# Altium integrated library Zilog Peripheral Interface.IntLib: 24 symbols
Pins are listed as number, name and electrical type; pins without a type are passive.

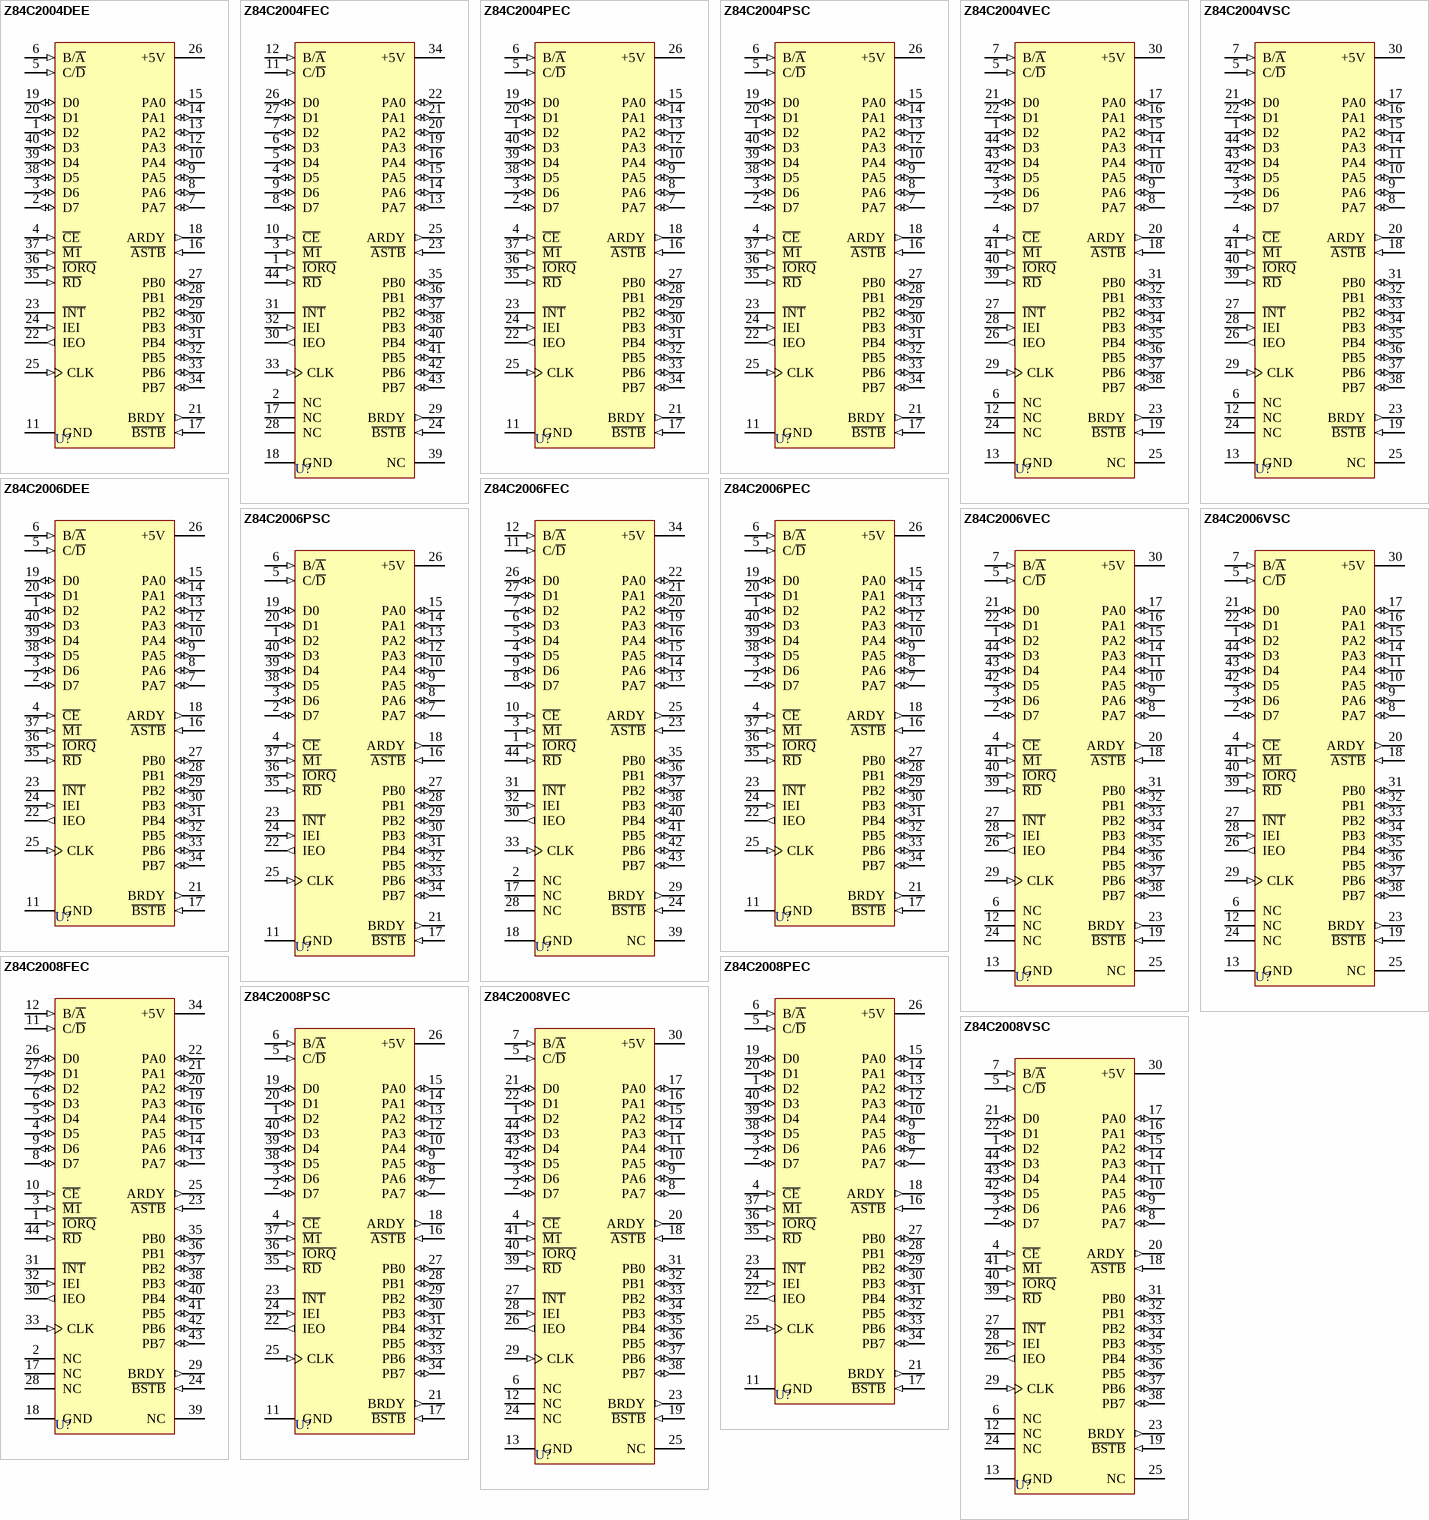
[diagram p0: symbols Z84C2004DEE to Z84C2008VSC]

## Z84C2004DEE
designator U?
CMOS Parallel I/O Controller; Published: 15-Apr-2002; LatestRevisionDate: 04-Mar-2005; LatestRevisionNote: Stylized 3D Model Added.; DatasheetVersion: 2001; PackageVersion: 1999; PackageReference: CerDIP40; Publisher: Altium Limited; PackageDescription: DIP; 40 Leads; Row Spacing 15.24 mm; Pitch 2.54 mm; ComponentLink1Description: Manufacturer Link; ComponentLink1URL: http://www.zilog.com/; ComponentLink2Description: Datasheet; ComponentLink2URL: http://www.zilog.com/docs/z80/um0081.pdf
footprint CerDIP40 (DIP; 40 Leads; Row Spacing 15.24 mm; Pitch 2.54 mm)
3D model PDIP40 (DIP; 40 Leads; Row Spacing 15.24 mm; Pitch 2.54 mm)
pins: 1 D2 (io), 2 D7 (io), 3 D6 (io), 4 ~{CE} (in), 5 C/~{D} (in), 6 B/~{A} (in), 7 PA7 (io), 8 PA6 (io), 9 PA5 (io), 10 PA4 (io), 11 GND (power), 12 PA3 (io), 13 PA2 (io), 14 PA1 (io), 15 PA0 (io), 16 ~{ASTB} (in), 17 ~{BSTB} (in), 18 ARDY (out), 19 D0 (io), 20 D1 (io), 21 BRDY (out), 22 IEO (out), 23 ~{INT} (oc), 24 IEI (in), 25 CLK (in), 26 +5V (power), 27 PB0 (io), 28 PB1 (io), 29 PB2 (io), 30 PB3 (io), 31 PB4 (io), 32 PB5 (io), 33 PB6 (io), 34 PB7 (io), 35 ~{RD} (in), 36 ~{IORQ} (in), 37 ~{M1} (in), 38 D5 (io), 39 D4 (io), 40 D3 (io)

## Z84C2004FEC
designator U?
CMOS Parallel I/O Controller; Published: 15-Apr-2002; LatestRevisionDate: 13-Apr-2006; LatestRevisionNote: IPC-7351 Footprint Added.; DatasheetVersion: Jan-1989; PackageReference: PQFP44; Publisher: Altium Limited; PackageDescription: 44-Pin Quad Flat Pack 0.8 mm Pitch; ComponentLink1Description: Manufacturer Link; ComponentLink1URL: http://www.zilog.com/
footprint PQFP44_N (QFP, 44-Leads, Body 10x10mm, Pitch 0.8mm, IPC Medium Density)
footprint PQFP44_L (QFP, 44-Leads, Body 10x10mm, Pitch 0.8mm, IPC High Density)
footprint PQFP44_M (QFP, 44-Leads, Body 10x10mm, Pitch 0.8mm, IPC Low Density)
3D model Z84C20-PQFP44 (44-Pin Quad Flat Pack 0.8 mm Pitch)
pins: 1 ~{IORQ} (in), 2 NC, 3 ~{M1} (in), 4 D5 (io), 5 D4 (io), 6 D3 (io), 7 D2 (io), 8 D7 (io), 9 D6 (io), 10 ~{CE} (in), 11 C/~{D} (in), 12 B/~{A} (in), 13 PA7 (io), 14 PA6 (io), 15 PA5 (io), 16 PA4 (io), 17 NC, 18 GND (power), 19 PA3 (io), 20 PA2 (io), 21 PA1 (io), 22 PA0 (io), 23 ~{ASTB} (in), 24 ~{BSTB} (in), 25 ARDY (out), 26 D0 (io), 27 D1 (io), 28 NC, 29 BRDY (out), 30 IEO (out), 31 ~{INT} (oc), 32 IEI (in), 33 CLK (in), 34 +5V (power), 35 PB0 (io), 36 PB1 (io), 37 PB2 (io), 38 PB3 (io), 39 NC, 40 PB4 (io), 41 PB5 (io), 42 PB6 (io), 43 PB7 (io), 44 ~{RD} (in)

## Z84C2004PEC
designator U?
CMOS Parallel I/O Controller; Published: 15-Apr-2002; LatestRevisionDate: 04-Mar-2005; LatestRevisionNote: Stylized 3D Model Added.; DatasheetVersion: 2001; PackageVersion: Jun-1999; PackageReference: PDIP40; Publisher: Altium Limited; PackageDescription: DIP; 40 Leads; Row Spacing 15.24 mm; Pitch 2.54 mm; ComponentLink1Description: Manufacturer Link; ComponentLink1URL: http://www.zilog.com/; ComponentLink2Description: Datasheet; ComponentLink2URL: http://www.zilog.com/docs/z80/um0081.pdf
footprint PDIP40 (DIP; 40 Leads; Row Spacing 15.24 mm; Pitch 2.54 mm)
3D model PDIP40 (DIP; 40 Leads; Row Spacing 15.24 mm; Pitch 2.54 mm)
pins: 1 D2 (io), 2 D7 (io), 3 D6 (io), 4 ~{CE} (in), 5 C/~{D} (in), 6 B/~{A} (in), 7 PA7 (io), 8 PA6 (io), 9 PA5 (io), 10 PA4 (io), 11 GND (power), 12 PA3 (io), 13 PA2 (io), 14 PA1 (io), 15 PA0 (io), 16 ~{ASTB} (in), 17 ~{BSTB} (in), 18 ARDY (out), 19 D0 (io), 20 D1 (io), 21 BRDY (out), 22 IEO (out), 23 ~{INT} (oc), 24 IEI (in), 25 CLK (in), 26 +5V (power), 27 PB0 (io), 28 PB1 (io), 29 PB2 (io), 30 PB3 (io), 31 PB4 (io), 32 PB5 (io), 33 PB6 (io), 34 PB7 (io), 35 ~{RD} (in), 36 ~{IORQ} (in), 37 ~{M1} (in), 38 D5 (io), 39 D4 (io), 40 D3 (io)

## Z84C2004PSC
designator U?
CMOS Parallel I/O Controller; Published: 15-Apr-2002; LatestRevisionDate: 04-Mar-2005; LatestRevisionNote: Stylized 3D Model Added.; DatasheetVersion: 2001; PackageVersion: Jun-1999; PackageReference: PDIP40; Publisher: Altium Limited; PackageDescription: DIP; 40 Leads; Row Spacing 15.24 mm; Pitch 2.54 mm; ComponentLink1Description: Manufacturer Link; ComponentLink1URL: http://www.zilog.com/; ComponentLink2Description: Datasheet; ComponentLink2URL: http://www.zilog.com/docs/z80/um0081.pdf
footprint PDIP40 (DIP; 40 Leads; Row Spacing 15.24 mm; Pitch 2.54 mm)
3D model PDIP40 (DIP; 40 Leads; Row Spacing 15.24 mm; Pitch 2.54 mm)
pins: 1 D2 (io), 2 D7 (io), 3 D6 (io), 4 ~{CE} (in), 5 C/~{D} (in), 6 B/~{A} (in), 7 PA7 (io), 8 PA6 (io), 9 PA5 (io), 10 PA4 (io), 11 GND (power), 12 PA3 (io), 13 PA2 (io), 14 PA1 (io), 15 PA0 (io), 16 ~{ASTB} (in), 17 ~{BSTB} (in), 18 ARDY (out), 19 D0 (io), 20 D1 (io), 21 BRDY (out), 22 IEO (out), 23 ~{INT} (oc), 24 IEI (in), 25 CLK (in), 26 +5V (power), 27 PB0 (io), 28 PB1 (io), 29 PB2 (io), 30 PB3 (io), 31 PB4 (io), 32 PB5 (io), 33 PB6 (io), 34 PB7 (io), 35 ~{RD} (in), 36 ~{IORQ} (in), 37 ~{M1} (in), 38 D5 (io), 39 D4 (io), 40 D3 (io)

## Z84C2004VEC
designator U?
CMOS Parallel I/O Controller; Published: 15-Apr-2002; LatestRevisionDate: 13-Apr-2006; LatestRevisionNote: IPC-7351 Footprint Added.; DatasheetVersion: 2001; PackageReference: PCC44; Publisher: Altium Limited; PackageDescription: 44-Pin Leaded Chip Carrier 1.27 mm Pitch; Code_IPC: PLCC-44; ComponentLink1Description: Manufacturer Link; ComponentLink1URL: http://www.zilog.com/; ComponentLink2Description: Datasheet; ComponentLink2URL: http://www.zilog.com/docs/z80/um0081.pdf
footprint PCC44_N (Leaded Chip Carrier, 44-Leads, Body 16.6x16.6mm, Pitch 1.27mm, IPC Medium Density)
footprint PCC44_L (Leaded Chip Carrier, 44-Leads, Body 16.6x16.6mm, Pitch 1.27mm, IPC High Density)
footprint PCC44_M (Leaded Chip Carrier, 44-Leads, Body 16.6x16.6mm, Pitch 1.27mm, IPC Low Density)
3D model Z84C20-PCC44 (44-Pin Leaded Chip Carrier 1.27 mm Pitch)
pins: 1 D2 (io), 2 D7 (io), 3 D6 (io), 4 ~{CE} (in), 5 C/~{D} (in), 6 NC, 7 B/~{A} (in), 8 PA7 (io), 9 PA6 (io), 10 PA5 (io), 11 PA4 (io), 12 NC, 13 GND (power), 14 PA3 (io), 15 PA2 (io), 16 PA1 (io), 17 PA0 (io), 18 ~{ASTB} (in), 19 ~{BSTB} (in), 20 ARDY (out), 21 D0 (io), 22 D1 (io), 23 BRDY (out), 24 NC, 25 NC, 26 IEO (out), 27 ~{INT} (oc), 28 IEI (in), 29 CLK (in), 30 +5V (power), 31 PB0 (io), 32 PB1 (io), 33 PB2 (io), 34 PB3 (io), 35 PB4 (io), 36 PB5 (io), 37 PB6 (io), 38 PB7 (io), 39 ~{RD} (in), 40 ~{IORQ} (in), 41 ~{M1} (in), 42 D5 (io), 43 D4 (io), 44 D3 (io)

## Z84C2004VSC
designator U?
CMOS Parallel I/O Controller; Published: 15-Apr-2002; LatestRevisionDate: 13-Apr-2006; LatestRevisionNote: IPC-7351 Footprint Added.; DatasheetVersion: 2001; PackageReference: PCC44; Publisher: Altium Limited; PackageDescription: 44-Pin Leaded Chip Carrier 1.27 mm Pitch; Code_IPC: PLCC-44; ComponentLink1Description: Manufacturer Link; ComponentLink1URL: http://www.zilog.com/; ComponentLink2Description: Datasheet; ComponentLink2URL: http://www.zilog.com/docs/z80/um0081.pdf
footprint PCC44_N (Leaded Chip Carrier, 44-Leads, Body 16.6x16.6mm, Pitch 1.27mm, IPC Medium Density)
footprint PCC44_L (Leaded Chip Carrier, 44-Leads, Body 16.6x16.6mm, Pitch 1.27mm, IPC High Density)
footprint PCC44_M (Leaded Chip Carrier, 44-Leads, Body 16.6x16.6mm, Pitch 1.27mm, IPC Low Density)
3D model Z84C20-PCC44 (44-Pin Leaded Chip Carrier 1.27 mm Pitch)
pins: 1 D2 (io), 2 D7 (io), 3 D6 (io), 4 ~{CE} (in), 5 C/~{D} (in), 6 NC, 7 B/~{A} (in), 8 PA7 (io), 9 PA6 (io), 10 PA5 (io), 11 PA4 (io), 12 NC, 13 GND (power), 14 PA3 (io), 15 PA2 (io), 16 PA1 (io), 17 PA0 (io), 18 ~{ASTB} (in), 19 ~{BSTB} (in), 20 ARDY (out), 21 D0 (io), 22 D1 (io), 23 BRDY (out), 24 NC, 25 NC, 26 IEO (out), 27 ~{INT} (oc), 28 IEI (in), 29 CLK (in), 30 +5V (power), 31 PB0 (io), 32 PB1 (io), 33 PB2 (io), 34 PB3 (io), 35 PB4 (io), 36 PB5 (io), 37 PB6 (io), 38 PB7 (io), 39 ~{RD} (in), 40 ~{IORQ} (in), 41 ~{M1} (in), 42 D5 (io), 43 D4 (io), 44 D3 (io)

## Z84C2006DEE
designator U?
CMOS Parallel I/O Controller; Published: 15-Apr-2002; LatestRevisionDate: 04-Mar-2005; LatestRevisionNote: Stylized 3D Model Added.; DatasheetVersion: 2001; PackageVersion: 1999; PackageReference: CerDIP40; Publisher: Altium Limited; PackageDescription: DIP; 40 Leads; Row Spacing 15.24 mm; Pitch 2.54 mm; ComponentLink1Description: Manufacturer Link; ComponentLink1URL: http://www.zilog.com/; ComponentLink2Description: Datasheet; ComponentLink2URL: http://www.zilog.com/docs/z80/um0081.pdf
footprint CerDIP40 (DIP; 40 Leads; Row Spacing 15.24 mm; Pitch 2.54 mm)
3D model PDIP40 (DIP; 40 Leads; Row Spacing 15.24 mm; Pitch 2.54 mm)
pins: 1 D2 (io), 2 D7 (io), 3 D6 (io), 4 ~{CE} (in), 5 C/~{D} (in), 6 B/~{A} (in), 7 PA7 (io), 8 PA6 (io), 9 PA5 (io), 10 PA4 (io), 11 GND (power), 12 PA3 (io), 13 PA2 (io), 14 PA1 (io), 15 PA0 (io), 16 ~{ASTB} (in), 17 ~{BSTB} (in), 18 ARDY (out), 19 D0 (io), 20 D1 (io), 21 BRDY (out), 22 IEO (out), 23 ~{INT} (oc), 24 IEI (in), 25 CLK (in), 26 +5V (power), 27 PB0 (io), 28 PB1 (io), 29 PB2 (io), 30 PB3 (io), 31 PB4 (io), 32 PB5 (io), 33 PB6 (io), 34 PB7 (io), 35 ~{RD} (in), 36 ~{IORQ} (in), 37 ~{M1} (in), 38 D5 (io), 39 D4 (io), 40 D3 (io)

## Z84C2006FEC
designator U?
CMOS Parallel I/O Controller; Published: 15-Apr-2002; LatestRevisionDate: 13-Apr-2006; LatestRevisionNote: IPC-7351 Footprint Added.; DatasheetVersion: Jan-1989; PackageReference: PQFP44; Publisher: Altium Limited; PackageDescription: 44-Pin Quad Flat Pack 0.8 mm Pitch; ComponentLink1Description: Manufacturer Link; ComponentLink1URL: http://www.zilog.com/; ComponentLink2Description: Datasheet; ComponentLink2URL: http://www.zilog.com/docs/z80/um0081.pdf
footprint PQFP44_N (QFP, 44-Leads, Body 10x10mm, Pitch 0.8mm, IPC Medium Density)
footprint PQFP44_L (QFP, 44-Leads, Body 10x10mm, Pitch 0.8mm, IPC High Density)
footprint PQFP44_M (QFP, 44-Leads, Body 10x10mm, Pitch 0.8mm, IPC Low Density)
3D model Z84C20-PQFP44 (44-Pin Quad Flat Pack 0.8 mm Pitch)
pins: 1 ~{IORQ} (in), 2 NC, 3 ~{M1} (in), 4 D5 (io), 5 D4 (io), 6 D3 (io), 7 D2 (io), 8 D7 (io), 9 D6 (io), 10 ~{CE} (in), 11 C/~{D} (in), 12 B/~{A} (in), 13 PA7 (io), 14 PA6 (io), 15 PA5 (io), 16 PA4 (io), 17 NC, 18 GND (power), 19 PA3 (io), 20 PA2 (io), 21 PA1 (io), 22 PA0 (io), 23 ~{ASTB} (in), 24 ~{BSTB} (in), 25 ARDY (out), 26 D0 (io), 27 D1 (io), 28 NC, 29 BRDY (out), 30 IEO (out), 31 ~{INT} (oc), 32 IEI (in), 33 CLK (in), 34 +5V (power), 35 PB0 (io), 36 PB1 (io), 37 PB2 (io), 38 PB3 (io), 39 NC, 40 PB4 (io), 41 PB5 (io), 42 PB6 (io), 43 PB7 (io), 44 ~{RD} (in)

## Z84C2006PEC
designator U?
CMOS Parallel I/O Controller; Published: 15-Apr-2002; LatestRevisionDate: 04-Mar-2005; LatestRevisionNote: Stylized 3D Model Added.; DatasheetVersion: 2001; PackageVersion: Jun-1999; PackageReference: PDIP40; Publisher: Altium Limited; PackageDescription: DIP; 40 Leads; Row Spacing 15.24 mm; Pitch 2.54 mm; ComponentLink1Description: Manufacturer Link; ComponentLink1URL: http://www.zilog.com/; ComponentLink2Description: Datasheet; ComponentLink2URL: http://www.zilog.com/docs/z80/um0081.pdf
footprint PDIP40 (DIP; 40 Leads; Row Spacing 15.24 mm; Pitch 2.54 mm)
3D model PDIP40 (DIP; 40 Leads; Row Spacing 15.24 mm; Pitch 2.54 mm)
pins: 1 D2 (io), 2 D7 (io), 3 D6 (io), 4 ~{CE} (in), 5 C/~{D} (in), 6 B/~{A} (in), 7 PA7 (io), 8 PA6 (io), 9 PA5 (io), 10 PA4 (io), 11 GND (power), 12 PA3 (io), 13 PA2 (io), 14 PA1 (io), 15 PA0 (io), 16 ~{ASTB} (in), 17 ~{BSTB} (in), 18 ARDY (out), 19 D0 (io), 20 D1 (io), 21 BRDY (out), 22 IEO (out), 23 ~{INT} (oc), 24 IEI (in), 25 CLK (in), 26 +5V (power), 27 PB0 (io), 28 PB1 (io), 29 PB2 (io), 30 PB3 (io), 31 PB4 (io), 32 PB5 (io), 33 PB6 (io), 34 PB7 (io), 35 ~{RD} (in), 36 ~{IORQ} (in), 37 ~{M1} (in), 38 D5 (io), 39 D4 (io), 40 D3 (io)

## Z84C2006PSC
designator U?
CMOS Parallel I/O Controller; Published: 15-Apr-2002; LatestRevisionDate: 04-Mar-2005; LatestRevisionNote: Stylized 3D Model Added.; DatasheetVersion: 2001; PackageVersion: Jun-1999; PackageReference: PDIP40; Publisher: Altium Limited; PackageDescription: DIP; 40 Leads; Row Spacing 15.24 mm; Pitch 2.54 mm; ComponentLink1Description: Manufacturer Link; ComponentLink1URL: http://www.zilog.com/; ComponentLink2Description: Datasheet; ComponentLink2URL: http://www.zilog.com/docs/z80/um0081.pdf
footprint PDIP40 (DIP; 40 Leads; Row Spacing 15.24 mm; Pitch 2.54 mm)
3D model PDIP40 (DIP; 40 Leads; Row Spacing 15.24 mm; Pitch 2.54 mm)
pins: 1 D2 (io), 2 D7 (io), 3 D6 (io), 4 ~{CE} (in), 5 C/~{D} (in), 6 B/~{A} (in), 7 PA7 (io), 8 PA6 (io), 9 PA5 (io), 10 PA4 (io), 11 GND (power), 12 PA3 (io), 13 PA2 (io), 14 PA1 (io), 15 PA0 (io), 16 ~{ASTB} (in), 17 ~{BSTB} (in), 18 ARDY (out), 19 D0 (io), 20 D1 (io), 21 BRDY (out), 22 IEO (out), 23 ~{INT} (oc), 24 IEI (in), 25 CLK (in), 26 +5V (power), 27 PB0 (io), 28 PB1 (io), 29 PB2 (io), 30 PB3 (io), 31 PB4 (io), 32 PB5 (io), 33 PB6 (io), 34 PB7 (io), 35 ~{RD} (in), 36 ~{IORQ} (in), 37 ~{M1} (in), 38 D5 (io), 39 D4 (io), 40 D3 (io)

## Z84C2006VEC
designator U?
CMOS Parallel I/O Controller; Published: 15-Apr-2002; LatestRevisionDate: 13-Apr-2006; LatestRevisionNote: IPC-7351 Footprint Added.; DatasheetVersion: 2001; PackageReference: PCC44; Publisher: Altium Limited; PackageDescription: 44-Pin Leaded Chip Carrier 1.27 mm Pitch; Code_IPC: PLCC-44; ComponentLink1Description: Manufacturer Link; ComponentLink1URL: http://www.zilog.com/; ComponentLink2Description: Datasheet; ComponentLink2URL: http://www.zilog.com/docs/z80/um0081.pdf
footprint PCC44_N (Leaded Chip Carrier, 44-Leads, Body 16.6x16.6mm, Pitch 1.27mm, IPC Medium Density)
footprint PCC44_L (Leaded Chip Carrier, 44-Leads, Body 16.6x16.6mm, Pitch 1.27mm, IPC High Density)
footprint PCC44_M (Leaded Chip Carrier, 44-Leads, Body 16.6x16.6mm, Pitch 1.27mm, IPC Low Density)
3D model Z84C20-PCC44 (44-Pin Leaded Chip Carrier 1.27 mm Pitch)
pins: 1 D2 (io), 2 D7 (io), 3 D6 (io), 4 ~{CE} (in), 5 C/~{D} (in), 6 NC, 7 B/~{A} (in), 8 PA7 (io), 9 PA6 (io), 10 PA5 (io), 11 PA4 (io), 12 NC, 13 GND (power), 14 PA3 (io), 15 PA2 (io), 16 PA1 (io), 17 PA0 (io), 18 ~{ASTB} (in), 19 ~{BSTB} (in), 20 ARDY (out), 21 D0 (io), 22 D1 (io), 23 BRDY (out), 24 NC, 25 NC, 26 IEO (out), 27 ~{INT} (oc), 28 IEI (in), 29 CLK (in), 30 +5V (power), 31 PB0 (io), 32 PB1 (io), 33 PB2 (io), 34 PB3 (io), 35 PB4 (io), 36 PB5 (io), 37 PB6 (io), 38 PB7 (io), 39 ~{RD} (in), 40 ~{IORQ} (in), 41 ~{M1} (in), 42 D5 (io), 43 D4 (io), 44 D3 (io)

## Z84C2006VSC
designator U?
CMOS Parallel I/O Controller; Published: 15-Apr-2002; LatestRevisionDate: 13-Apr-2006; LatestRevisionNote: IPC-7351 Footprint Added.; DatasheetVersion: 2001; PackageReference: PCC44; Publisher: Altium Limited; PackageDescription: 44-Pin Leaded Chip Carrier 1.27 mm Pitch; Code_IPC: PLCC-44; ComponentLink1Description: Manufacturer Link; ComponentLink1URL: http://www.zilog.com/; ComponentLink2Description: Datasheet; ComponentLink2URL: http://www.zilog.com/docs/z80/um0081.pdf
footprint PCC44_N (Leaded Chip Carrier, 44-Leads, Body 16.6x16.6mm, Pitch 1.27mm, IPC Medium Density)
footprint PCC44_L (Leaded Chip Carrier, 44-Leads, Body 16.6x16.6mm, Pitch 1.27mm, IPC High Density)
footprint PCC44_M (Leaded Chip Carrier, 44-Leads, Body 16.6x16.6mm, Pitch 1.27mm, IPC Low Density)
3D model Z84C20-PCC44 (44-Pin Leaded Chip Carrier 1.27 mm Pitch)
pins: 1 D2 (io), 2 D7 (io), 3 D6 (io), 4 ~{CE} (in), 5 C/~{D} (in), 6 NC, 7 B/~{A} (in), 8 PA7 (io), 9 PA6 (io), 10 PA5 (io), 11 PA4 (io), 12 NC, 13 GND (power), 14 PA3 (io), 15 PA2 (io), 16 PA1 (io), 17 PA0 (io), 18 ~{ASTB} (in), 19 ~{BSTB} (in), 20 ARDY (out), 21 D0 (io), 22 D1 (io), 23 BRDY (out), 24 NC, 25 NC, 26 IEO (out), 27 ~{INT} (oc), 28 IEI (in), 29 CLK (in), 30 +5V (power), 31 PB0 (io), 32 PB1 (io), 33 PB2 (io), 34 PB3 (io), 35 PB4 (io), 36 PB5 (io), 37 PB6 (io), 38 PB7 (io), 39 ~{RD} (in), 40 ~{IORQ} (in), 41 ~{M1} (in), 42 D5 (io), 43 D4 (io), 44 D3 (io)

## Z84C2008FEC
designator U?
CMOS Parallel I/O Controller; Published: 15-Apr-2002; LatestRevisionDate: 13-Apr-2006; LatestRevisionNote: IPC-7351 Footprint Added.; DatasheetVersion: Jan-1989; PackageReference: PQFP44; Publisher: Altium Limited; PackageDescription: 44-Pin Quad Flat Pack 0.8 mm Pitch; ComponentLink1Description: Manufacturer Link; ComponentLink1URL: http://www.zilog.com/
footprint PQFP44_N (QFP, 44-Leads, Body 10x10mm, Pitch 0.8mm, IPC Medium Density)
footprint PQFP44_L (QFP, 44-Leads, Body 10x10mm, Pitch 0.8mm, IPC High Density)
footprint PQFP44_M (QFP, 44-Leads, Body 10x10mm, Pitch 0.8mm, IPC Low Density)
3D model Z84C20-PQFP44 (44-Pin Quad Flat Pack 0.8 mm Pitch)
pins: 1 ~{IORQ} (in), 2 NC, 3 ~{M1} (in), 4 D5 (io), 5 D4 (io), 6 D3 (io), 7 D2 (io), 8 D7 (io), 9 D6 (io), 10 ~{CE} (in), 11 C/~{D} (in), 12 B/~{A} (in), 13 PA7 (io), 14 PA6 (io), 15 PA5 (io), 16 PA4 (io), 17 NC, 18 GND (power), 19 PA3 (io), 20 PA2 (io), 21 PA1 (io), 22 PA0 (io), 23 ~{ASTB} (in), 24 ~{BSTB} (in), 25 ARDY (out), 26 D0 (io), 27 D1 (io), 28 NC, 29 BRDY (out), 30 IEO (out), 31 ~{INT} (oc), 32 IEI (in), 33 CLK (in), 34 +5V (power), 35 PB0 (io), 36 PB1 (io), 37 PB2 (io), 38 PB3 (io), 39 NC, 40 PB4 (io), 41 PB5 (io), 42 PB6 (io), 43 PB7 (io), 44 ~{RD} (in)

## Z84C2008PEC
designator U?
CMOS Parallel I/O Controller; Published: 15-Apr-2002; LatestRevisionDate: 04-Mar-2005; LatestRevisionNote: Stylized 3D Model Added.; DatasheetVersion: 2001; PackageVersion: Jun-1999; PackageReference: PDIP40; Publisher: Altium Limited; PackageDescription: DIP; 40 Leads; Row Spacing 15.24 mm; Pitch 2.54 mm; ComponentLink1Description: Manufacturer Link; ComponentLink1URL: http://www.zilog.com/; ComponentLink2Description: Datasheet; ComponentLink2URL: http://www.zilog.com/docs/z80/um0081.pdf
footprint PDIP40 (DIP; 40 Leads; Row Spacing 15.24 mm; Pitch 2.54 mm)
3D model PDIP40 (DIP; 40 Leads; Row Spacing 15.24 mm; Pitch 2.54 mm)
pins: 1 D2 (io), 2 D7 (io), 3 D6 (io), 4 ~{CE} (in), 5 C/~{D} (in), 6 B/~{A} (in), 7 PA7 (io), 8 PA6 (io), 9 PA5 (io), 10 PA4 (io), 11 GND (power), 12 PA3 (io), 13 PA2 (io), 14 PA1 (io), 15 PA0 (io), 16 ~{ASTB} (in), 17 ~{BSTB} (in), 18 ARDY (out), 19 D0 (io), 20 D1 (io), 21 BRDY (out), 22 IEO (out), 23 ~{INT} (oc), 24 IEI (in), 25 CLK (in), 26 +5V (power), 27 PB0 (io), 28 PB1 (io), 29 PB2 (io), 30 PB3 (io), 31 PB4 (io), 32 PB5 (io), 33 PB6 (io), 34 PB7 (io), 35 ~{RD} (in), 36 ~{IORQ} (in), 37 ~{M1} (in), 38 D5 (io), 39 D4 (io), 40 D3 (io)

## Z84C2008PSC
designator U?
CMOS Parallel I/O Controller; Published: 15-Apr-2002; LatestRevisionDate: 04-Mar-2005; LatestRevisionNote: Stylized 3D Model Added.; DatasheetVersion: 2001; PackageVersion: Jun-1999; PackageReference: PDIP40; Publisher: Altium Limited; PackageDescription: DIP; 40 Leads; Row Spacing 15.24 mm; Pitch 2.54 mm; ComponentLink1Description: Manufacturer Link; ComponentLink1URL: http://www.zilog.com/; ComponentLink2Description: Datasheet; ComponentLink2URL: http://www.zilog.com/docs/z80/um0081.pdf
footprint PDIP40 (DIP; 40 Leads; Row Spacing 15.24 mm; Pitch 2.54 mm)
3D model PDIP40 (DIP; 40 Leads; Row Spacing 15.24 mm; Pitch 2.54 mm)
pins: 1 D2 (io), 2 D7 (io), 3 D6 (io), 4 ~{CE} (in), 5 C/~{D} (in), 6 B/~{A} (in), 7 PA7 (io), 8 PA6 (io), 9 PA5 (io), 10 PA4 (io), 11 GND (power), 12 PA3 (io), 13 PA2 (io), 14 PA1 (io), 15 PA0 (io), 16 ~{ASTB} (in), 17 ~{BSTB} (in), 18 ARDY (out), 19 D0 (io), 20 D1 (io), 21 BRDY (out), 22 IEO (out), 23 ~{INT} (oc), 24 IEI (in), 25 CLK (in), 26 +5V (power), 27 PB0 (io), 28 PB1 (io), 29 PB2 (io), 30 PB3 (io), 31 PB4 (io), 32 PB5 (io), 33 PB6 (io), 34 PB7 (io), 35 ~{RD} (in), 36 ~{IORQ} (in), 37 ~{M1} (in), 38 D5 (io), 39 D4 (io), 40 D3 (io)

## Z84C2008VEC
designator U?
CMOS Parallel I/O Controller; Published: 15-Apr-2002; LatestRevisionDate: 13-Apr-2006; LatestRevisionNote: IPC-7351 Footprint Added.; DatasheetVersion: 2001; PackageReference: PCC44; Publisher: Altium Limited; PackageDescription: 44-Pin Leaded Chip Carrier 1.27 mm Pitch; Code_IPC: PLCC-44; ComponentLink1Description: Manufacturer Link; ComponentLink1URL: http://www.zilog.com/; ComponentLink2Description: Datasheet; ComponentLink2URL: http://www.zilog.com/docs/z80/um0081.pdf
footprint PCC44_N (Leaded Chip Carrier, 44-Leads, Body 16.6x16.6mm, Pitch 1.27mm, IPC Medium Density)
footprint PCC44_L (Leaded Chip Carrier, 44-Leads, Body 16.6x16.6mm, Pitch 1.27mm, IPC High Density)
footprint PCC44_M (Leaded Chip Carrier, 44-Leads, Body 16.6x16.6mm, Pitch 1.27mm, IPC Low Density)
3D model Z84C20-PCC44 (44-Pin Leaded Chip Carrier 1.27 mm Pitch)
pins: 1 D2 (io), 2 D7 (io), 3 D6 (io), 4 ~{CE} (in), 5 C/~{D} (in), 6 NC, 7 B/~{A} (in), 8 PA7 (io), 9 PA6 (io), 10 PA5 (io), 11 PA4 (io), 12 NC, 13 GND (power), 14 PA3 (io), 15 PA2 (io), 16 PA1 (io), 17 PA0 (io), 18 ~{ASTB} (in), 19 ~{BSTB} (in), 20 ARDY (out), 21 D0 (io), 22 D1 (io), 23 BRDY (out), 24 NC, 25 NC, 26 IEO (out), 27 ~{INT} (oc), 28 IEI (in), 29 CLK (in), 30 +5V (power), 31 PB0 (io), 32 PB1 (io), 33 PB2 (io), 34 PB3 (io), 35 PB4 (io), 36 PB5 (io), 37 PB6 (io), 38 PB7 (io), 39 ~{RD} (in), 40 ~{IORQ} (in), 41 ~{M1} (in), 42 D5 (io), 43 D4 (io), 44 D3 (io)

## Z84C2008VSC
designator U?
CMOS Parallel I/O Controller; Published: 15-Apr-2002; LatestRevisionDate: 13-Apr-2006; LatestRevisionNote: IPC-7351 Footprint Added.; DatasheetVersion: 2001; PackageReference: PCC44; Publisher: Altium Limited; PackageDescription: 44-Pin Leaded Chip Carrier 1.27 mm Pitch; Code_IPC: PLCC-44; ComponentLink1Description: Manufacturer Link; ComponentLink1URL: http://www.zilog.com/; ComponentLink2Description: Datasheet; ComponentLink2URL: http://www.zilog.com/docs/z80/um0081.pdf
footprint PCC44_N (Leaded Chip Carrier, 44-Leads, Body 16.6x16.6mm, Pitch 1.27mm, IPC Medium Density)
footprint PCC44_L (Leaded Chip Carrier, 44-Leads, Body 16.6x16.6mm, Pitch 1.27mm, IPC High Density)
footprint PCC44_M (Leaded Chip Carrier, 44-Leads, Body 16.6x16.6mm, Pitch 1.27mm, IPC Low Density)
3D model Z84C20-PCC44 (44-Pin Leaded Chip Carrier 1.27 mm Pitch)
pins: 1 D2 (io), 2 D7 (io), 3 D6 (io), 4 ~{CE} (in), 5 C/~{D} (in), 6 NC, 7 B/~{A} (in), 8 PA7 (io), 9 PA6 (io), 10 PA5 (io), 11 PA4 (io), 12 NC, 13 GND (power), 14 PA3 (io), 15 PA2 (io), 16 PA1 (io), 17 PA0 (io), 18 ~{ASTB} (in), 19 ~{BSTB} (in), 20 ARDY (out), 21 D0 (io), 22 D1 (io), 23 BRDY (out), 24 NC, 25 NC, 26 IEO (out), 27 ~{INT} (oc), 28 IEI (in), 29 CLK (in), 30 +5V (power), 31 PB0 (io), 32 PB1 (io), 33 PB2 (io), 34 PB3 (io), 35 PB4 (io), 36 PB5 (io), 37 PB6 (io), 38 PB7 (io), 39 ~{RD} (in), 40 ~{IORQ} (in), 41 ~{M1} (in), 42 D5 (io), 43 D4 (io), 44 D3 (io)

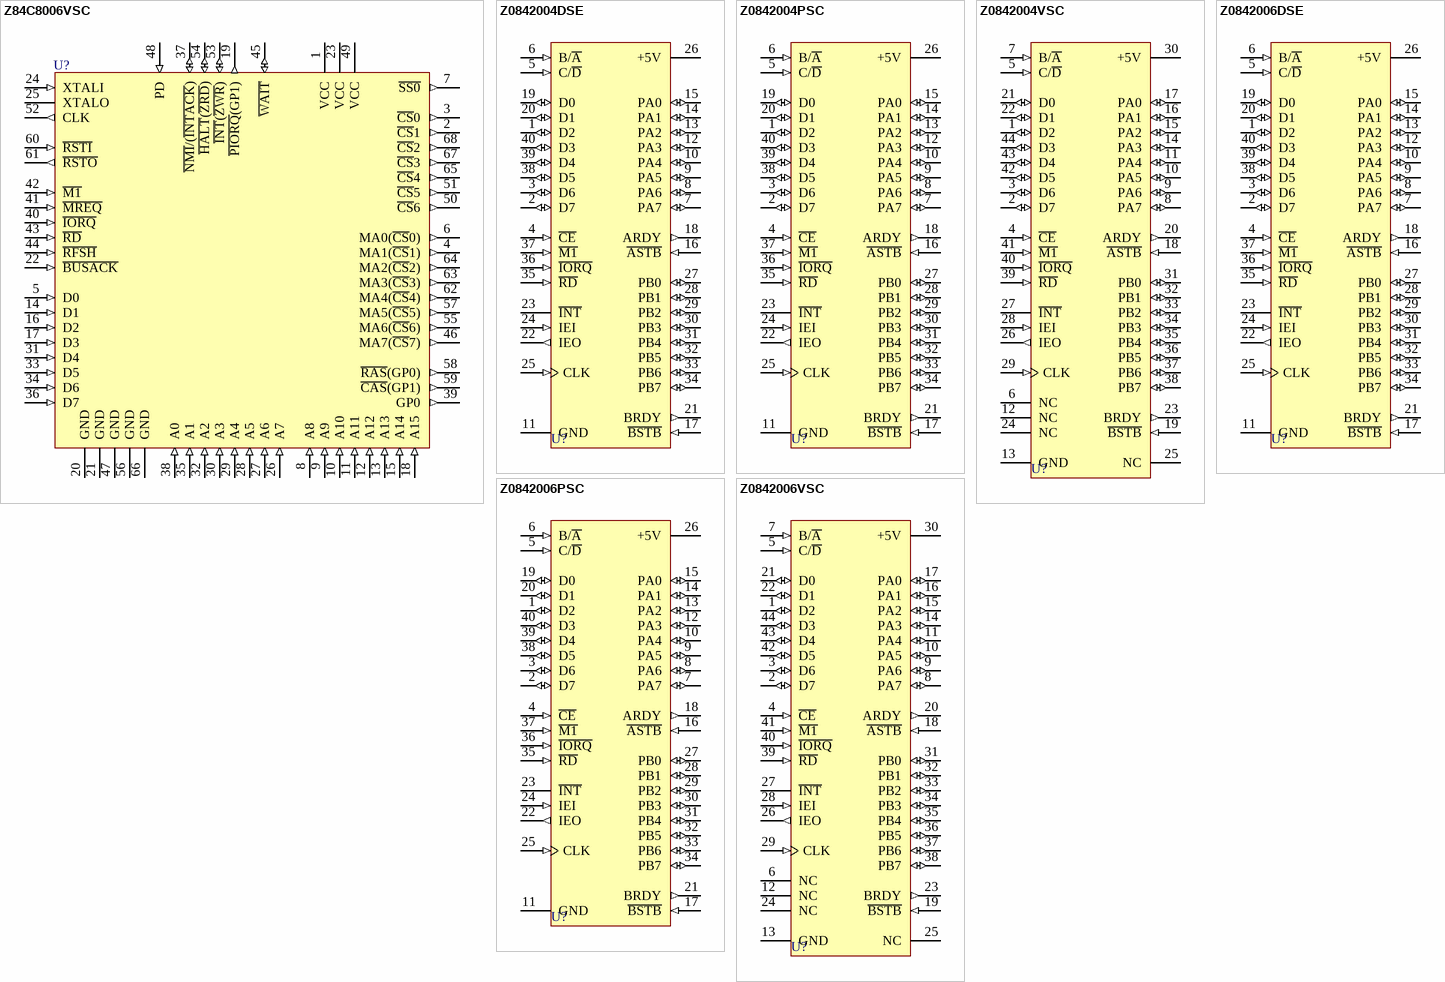
[diagram p1: symbols Z84C8006VSC to Z0842006VSC]

## Z84C8006VSC
designator U?
CMOS General Logic Unit; Published: 15-Apr-2002; LatestRevisionDate: 13-Apr-2006; LatestRevisionNote: IPC-7351 Footprint Added.; DatasheetVersion: Jan-1989; PackageReference: PCC68; Publisher: Altium Limited; PackageDescription: 68-Pin Leaded Chip Carrier 1.27 mm Pitch; Code_IPC: PLCC-68; ComponentLink1Description: Manufacturer Link; ComponentLink1URL: http://www.zilog.com/
footprint PCC68_N (Leaded Chip Carrier, 68-Leads, Body 24x24mm, Pitch 1.27mm, IPC Medium Density)
footprint PCC68_L (Leaded Chip Carrier, 68-Leads, Body 24x24mm, Pitch 1.27mm, IPC High Density)
footprint PCC68_M (Leaded Chip Carrier, 68-Leads, Body 24x24mm, Pitch 1.27mm, IPC Low Density)
3D model Z84C80-PCC68 (68-Pin Leaded Chip Carrier 1.27 mm Pitch)
pins: 1 VCC (power), 2 ~{CS}1 (out), 3 ~{CS}0 (out), 4 MA1(~{CS}1) (out), 5 D0 (in), 6 MA0(~{CS}0) (out), 7 ~{SS0} (out), 8 A8 (in), 9 A9 (in), 10 A10 (in), 11 A11 (in), 12 A12 (in), 13 A13 (in), 14 D1 (in), 15 A14 (in), 16 D2 (in), 17 D3 (in), 18 A15 (in), 19 ~{PIORQ}(GP1) (out), 20 GND (power), 21 GND (power), 22 ~{BUSACK} (in), 23 VCC (power), 24 XTALI (in), 25 XTALO, 26 A7 (in), 27 A6 (in), 28 A5 (in), 29 A4 (in), 30 A3 (in), 31 D4 (in), 32 A2 (in), 33 D5 (in), 34 D6 (in), 35 A1 (in), 36 D7 (in), 37 ~{NMI}/(~{INTACK}) (io), 38 A0 (in), 39 GP0 (out), 40 ~{IORQ} (in), 41 ~{MREQ} (in), 42 ~{M1} (in), 43 ~{RD} (in), 44 ~{RFSH} (in), 45 ~{WAIT} (io), 46 MA7(~{CS}7) (out), 47 GND (power), 48 PD (in), 49 VCC (power), 50 ~{CS}6 (out), 51 ~{CS}5 (out), 52 CLK (out), 53 ~{INT}(~{ZWR}) (io), 54 ~{HALT}(~{ZRD}) (io), 55 MA6(~{CS}6) (out), 56 GND (power), 57 MA5(~{CS}5) (out), 58 ~{RAS}(GP0) (out), 59 ~{CAS}(GP1) (out), 60 ~{RSTI} (in), 61 ~{RSTO} (out), 62 MA4(~{CS}4) (out), 63 MA3(~{CS}3) (out), 64 MA2(~{CS}2) (out), 65 ~{CS}4 (out), 66 GND (power), 67 ~{CS}3 (out), 68 ~{CS}2 (out)

## Z0842004DSE
designator U?
NMOS Parallel I/O Controller; Published: 15-Apr-2002; LatestRevisionDate: 04-Mar-2005; LatestRevisionNote: Stylized 3D Model Added.; DatasheetVersion: 2001; PackageVersion: 1999; PackageReference: CerDIP40; Publisher: Altium Limited; PackageDescription: DIP; 40 Leads; Row Spacing 15.24 mm; Pitch 2.54 mm; ComponentLink1Description: Manufacturer Link; ComponentLink1URL: http://www.zilog.com/; ComponentLink2Description: Datasheet; ComponentLink2URL: http://www.zilog.com/docs/z80/um0081.pdf
footprint CerDIP40 (DIP; 40 Leads; Row Spacing 15.24 mm; Pitch 2.54 mm)
3D model PDIP40 (DIP; 40 Leads; Row Spacing 15.24 mm; Pitch 2.54 mm)
pins: 1 D2 (io), 2 D7 (io), 3 D6 (io), 4 ~{CE} (in), 5 C/~{D} (in), 6 B/~{A} (in), 7 PA7 (io), 8 PA6 (io), 9 PA5 (io), 10 PA4 (io), 11 GND (power), 12 PA3 (io), 13 PA2 (io), 14 PA1 (io), 15 PA0 (io), 16 ~{ASTB} (in), 17 ~{BSTB} (in), 18 ARDY (out), 19 D0 (io), 20 D1 (io), 21 BRDY (out), 22 IEO (out), 23 ~{INT} (oc), 24 IEI (in), 25 CLK (in), 26 +5V (power), 27 PB0 (io), 28 PB1 (io), 29 PB2 (io), 30 PB3 (io), 31 PB4 (io), 32 PB5 (io), 33 PB6 (io), 34 PB7 (io), 35 ~{RD} (in), 36 ~{IORQ} (in), 37 ~{M1} (in), 38 D5 (io), 39 D4 (io), 40 D3 (io)

## Z0842004PSC
designator U?
NMOS Parallel I/O Controller; Published: 15-Apr-2002; LatestRevisionDate: 04-Mar-2005; LatestRevisionNote: Stylized 3D Model Added.; DatasheetVersion: 2001; PackageVersion: Jun-1999; PackageReference: PDIP40; Publisher: Altium Limited; PackageDescription: DIP; 40 Leads; Row Spacing 15.24 mm; Pitch 2.54 mm; ComponentLink1Description: Manufacturer Link; ComponentLink1URL: http://www.zilog.com/; ComponentLink2Description: Datasheet; ComponentLink2URL: http://www.zilog.com/docs/z80/um0081.pdf
footprint PDIP40 (DIP; 40 Leads; Row Spacing 15.24 mm; Pitch 2.54 mm)
3D model PDIP40 (DIP; 40 Leads; Row Spacing 15.24 mm; Pitch 2.54 mm)
pins: 1 D2 (io), 2 D7 (io), 3 D6 (io), 4 ~{CE} (in), 5 C/~{D} (in), 6 B/~{A} (in), 7 PA7 (io), 8 PA6 (io), 9 PA5 (io), 10 PA4 (io), 11 GND (power), 12 PA3 (io), 13 PA2 (io), 14 PA1 (io), 15 PA0 (io), 16 ~{ASTB} (in), 17 ~{BSTB} (in), 18 ARDY (out), 19 D0 (io), 20 D1 (io), 21 BRDY (out), 22 IEO (out), 23 ~{INT} (oc), 24 IEI (in), 25 CLK (in), 26 +5V (power), 27 PB0 (io), 28 PB1 (io), 29 PB2 (io), 30 PB3 (io), 31 PB4 (io), 32 PB5 (io), 33 PB6 (io), 34 PB7 (io), 35 ~{RD} (in), 36 ~{IORQ} (in), 37 ~{M1} (in), 38 D5 (io), 39 D4 (io), 40 D3 (io)

## Z0842004VSC
designator U?
NMOS Parallel I/O Controller; Published: 15-Apr-2002; LatestRevisionDate: 13-Apr-2006; LatestRevisionNote: IPC-7351 Footprint Added.; DatasheetVersion: 2001; PackageReference: PCC44; Publisher: Altium Limited; PackageDescription: 44-Pin Leaded Chip Carrier 1.27 mm Pitch; Code_IPC: PLCC-44; ComponentLink1Description: Manufacturer Link; ComponentLink1URL: http://www.zilog.com/; ComponentLink2Description: Datasheet; ComponentLink2URL: http://www.zilog.com/docs/z80/um0081.pdf
footprint PCC44_N (Leaded Chip Carrier, 44-Leads, Body 16.6x16.6mm, Pitch 1.27mm, IPC Medium Density)
footprint PCC44_L (Leaded Chip Carrier, 44-Leads, Body 16.6x16.6mm, Pitch 1.27mm, IPC High Density)
footprint PCC44_M (Leaded Chip Carrier, 44-Leads, Body 16.6x16.6mm, Pitch 1.27mm, IPC Low Density)
3D model Z08420-PCC44 (44-Pin Leaded Chip Carrier 1.27 mm Pitch)
pins: 1 D2 (io), 2 D7 (io), 3 D6 (io), 4 ~{CE} (in), 5 C/~{D} (in), 6 NC, 7 B/~{A} (in), 8 PA7 (io), 9 PA6 (io), 10 PA5 (io), 11 PA4 (io), 12 NC, 13 GND (power), 14 PA3 (io), 15 PA2 (io), 16 PA1 (io), 17 PA0 (io), 18 ~{ASTB} (in), 19 ~{BSTB} (in), 20 ARDY (out), 21 D0 (io), 22 D1 (io), 23 BRDY (out), 24 NC, 25 NC, 26 IEO (out), 27 ~{INT} (oc), 28 IEI (in), 29 CLK (in), 30 +5V (power), 31 PB0 (io), 32 PB1 (io), 33 PB2 (io), 34 PB3 (io), 35 PB4 (io), 36 PB5 (io), 37 PB6 (io), 38 PB7 (io), 39 ~{RD} (in), 40 ~{IORQ} (in), 41 ~{M1} (in), 42 D5 (io), 43 D4 (io), 44 D3 (io)

## Z0842006DSE
designator U?
NMOS Parallel I/O Controller; Published: 15-Apr-2002; LatestRevisionDate: 04-Mar-2005; LatestRevisionNote: Stylized 3D Model Added.; DatasheetVersion: 2001; PackageVersion: 1999; PackageReference: CerDIP40; Publisher: Altium Limited; PackageDescription: DIP; 40 Leads; Row Spacing 15.24 mm; Pitch 2.54 mm; ComponentLink1Description: Manufacturer Link; ComponentLink1URL: http://www.zilog.com/; ComponentLink2Description: Datasheet; ComponentLink2URL: http://www.zilog.com/docs/z80/um0081.pdf
footprint CerDIP40 (DIP; 40 Leads; Row Spacing 15.24 mm; Pitch 2.54 mm)
3D model PDIP40 (DIP; 40 Leads; Row Spacing 15.24 mm; Pitch 2.54 mm)
pins: 1 D2 (io), 2 D7 (io), 3 D6 (io), 4 ~{CE} (in), 5 C/~{D} (in), 6 B/~{A} (in), 7 PA7 (io), 8 PA6 (io), 9 PA5 (io), 10 PA4 (io), 11 GND (power), 12 PA3 (io), 13 PA2 (io), 14 PA1 (io), 15 PA0 (io), 16 ~{ASTB} (in), 17 ~{BSTB} (in), 18 ARDY (out), 19 D0 (io), 20 D1 (io), 21 BRDY (out), 22 IEO (out), 23 ~{INT} (oc), 24 IEI (in), 25 CLK (in), 26 +5V (power), 27 PB0 (io), 28 PB1 (io), 29 PB2 (io), 30 PB3 (io), 31 PB4 (io), 32 PB5 (io), 33 PB6 (io), 34 PB7 (io), 35 ~{RD} (in), 36 ~{IORQ} (in), 37 ~{M1} (in), 38 D5 (io), 39 D4 (io), 40 D3 (io)

## Z0842006PSC
designator U?
NMOS Parallel I/O Controller; Published: 15-Apr-2002; LatestRevisionDate: 04-Mar-2005; LatestRevisionNote: Stylized 3D Model Added.; DatasheetVersion: 2001; PackageVersion: Jun-1999; PackageReference: PDIP40; Publisher: Altium Limited; PackageDescription: DIP; 40 Leads; Row Spacing 15.24 mm; Pitch 2.54 mm; ComponentLink1Description: Manufacturer Link; ComponentLink1URL: http://www.zilog.com/; ComponentLink2Description: Datasheet; ComponentLink2URL: http://www.zilog.com/docs/z80/um0081.pdf
footprint PDIP40 (DIP; 40 Leads; Row Spacing 15.24 mm; Pitch 2.54 mm)
3D model PDIP40 (DIP; 40 Leads; Row Spacing 15.24 mm; Pitch 2.54 mm)
pins: 1 D2 (io), 2 D7 (io), 3 D6 (io), 4 ~{CE} (in), 5 C/~{D} (in), 6 B/~{A} (in), 7 PA7 (io), 8 PA6 (io), 9 PA5 (io), 10 PA4 (io), 11 GND (power), 12 PA3 (io), 13 PA2 (io), 14 PA1 (io), 15 PA0 (io), 16 ~{ASTB} (in), 17 ~{BSTB} (in), 18 ARDY (out), 19 D0 (io), 20 D1 (io), 21 BRDY (out), 22 IEO (out), 23 ~{INT} (oc), 24 IEI (in), 25 CLK (in), 26 +5V (power), 27 PB0 (io), 28 PB1 (io), 29 PB2 (io), 30 PB3 (io), 31 PB4 (io), 32 PB5 (io), 33 PB6 (io), 34 PB7 (io), 35 ~{RD} (in), 36 ~{IORQ} (in), 37 ~{M1} (in), 38 D5 (io), 39 D4 (io), 40 D3 (io)

## Z0842006VSC
designator U?
NMOS Parallel I/O Controller; Published: 15-Apr-2002; LatestRevisionDate: 13-Apr-2006; LatestRevisionNote: IPC-7351 Footprint Added.; DatasheetVersion: 2001; PackageReference: PCC44; Publisher: Altium Limited; PackageDescription: 44-Pin Leaded Chip Carrier 1.27 mm Pitch; Code_IPC: PLCC-44; ComponentLink1Description: Manufacturer Link; ComponentLink1URL: http://www.zilog.com/; ComponentLink2Description: Datasheet; ComponentLink2URL: http://www.zilog.com/docs/z80/um0081.pdf
footprint PCC44_N (Leaded Chip Carrier, 44-Leads, Body 16.6x16.6mm, Pitch 1.27mm, IPC Medium Density)
footprint PCC44_L (Leaded Chip Carrier, 44-Leads, Body 16.6x16.6mm, Pitch 1.27mm, IPC High Density)
footprint PCC44_M (Leaded Chip Carrier, 44-Leads, Body 16.6x16.6mm, Pitch 1.27mm, IPC Low Density)
3D model Z08420-PCC44 (44-Pin Leaded Chip Carrier 1.27 mm Pitch)
pins: 1 D2 (io), 2 D7 (io), 3 D6 (io), 4 ~{CE} (in), 5 C/~{D} (in), 6 NC, 7 B/~{A} (in), 8 PA7 (io), 9 PA6 (io), 10 PA5 (io), 11 PA4 (io), 12 NC, 13 GND (power), 14 PA3 (io), 15 PA2 (io), 16 PA1 (io), 17 PA0 (io), 18 ~{ASTB} (in), 19 ~{BSTB} (in), 20 ARDY (out), 21 D0 (io), 22 D1 (io), 23 BRDY (out), 24 NC, 25 NC, 26 IEO (out), 27 ~{INT} (oc), 28 IEI (in), 29 CLK (in), 30 +5V (power), 31 PB0 (io), 32 PB1 (io), 33 PB2 (io), 34 PB3 (io), 35 PB4 (io), 36 PB5 (io), 37 PB6 (io), 38 PB7 (io), 39 ~{RD} (in), 40 ~{IORQ} (in), 41 ~{M1} (in), 42 D5 (io), 43 D4 (io), 44 D3 (io)